# EAGLE library part USBLC6-2 (library perehodnik)
USB ESD PROTECTION
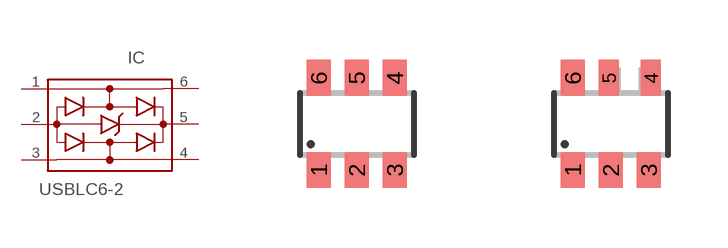
[diagram p4: symbol with the pads of SOT23-6; footprints SOT23-6, SOT23-6MOD]

Designator prefix IC

## USBLC6-2  [SOT23-6]
1  I/O1
2  GND  pwr
3  I/O2
4  I/O2
5  VBUS  pwr
6  I/O1

## USBLC6-2MOD  [SOT23-6MOD]
Pads as for SOT23-6

## Footprint SOT23-6 (pad centres in mm)
Small Outline Transistor 6 lead
smd 0.6 x 0.9: 1 -0.95,-1.15; 2 0,-1.15; 3 0.95,-1.15; 4 0.95,1.15; 5 0,1.15; 6 -0.95,1.15

## Footprint SOT23-6MOD (pad centres in mm)
smd 0.6 x 0.9: 1 -0.95,-1.15; 2 0,-1.15; 3 0.95,-1.15; 6 -0.95,1.15
smd 0.5 x 0.9: 4 1,1.15; 5 -0.05,1.15